# Altium schematic symbol library MiCS.SchLib: 3 symbols
Pins are listed as number, name and electrical type; pins without a type are passive.

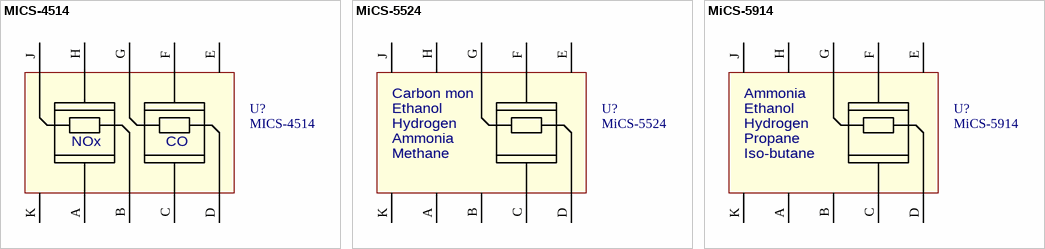
[diagram p0: symbols MICS-4514 to MiCS-5914]

## MICS-4514
designator U?
value: MICS-4514
footprint MiCS (MiCS-4514, MiCS-5524, MiCS-5914)
pins: A, B, C, D, E, F, G, H, J, K
text: NOx; CO

## MiCS-5524
designator U?
value: MiCS-5524
footprint MiCS (MiCS-4514, MiCS-5524, MiCS-5914)
pins: A, B, C, D, E, F, G, H, J, K
text: Carbon mon; Ethanol; Hydrogen; Ammonia; Methane

## MiCS-5914
designator U?
MEMS sensor for ammonia detection; value: MiCS-5914
footprint MiCS (MiCS-4514, MiCS-5524, MiCS-5914)
pins: A, B, C, D, E, F, G, H, J, K
text: Ammonia; Ethanol; Hydrogen; Propane; Iso-butane